# Altium schematic symbol library SCH - POWER - SWITCHMODE - TI TPS51216RUK.SchLib: 1 symbol
Pins are listed as number, name and electrical type; pins without a type are passive.

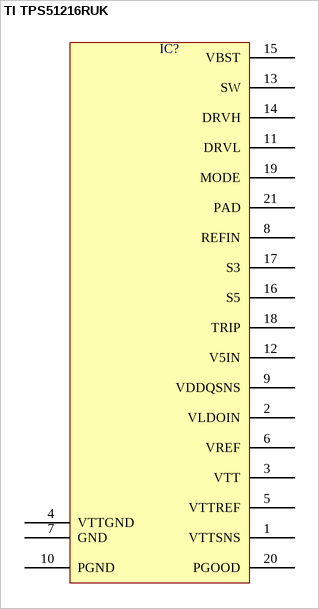
[diagram p0: symbol TI TPS51216RUK]

## TI TPS51216RUK
designator IC?  (value not drawn)
pins: 1 VTTSNS, 2 VLDOIN, 3 VTT, 4 VTTGND, 5 VTTREF, 6 VREF, 7 GND, 8 REFIN, 9 VDDQSNS, 10 PGND, 11 DRVL, 12 V5IN, 13 SW, 14 DRVH, 15 VBST, 16 S5, 17 S3, 18 TRIP, 19 MODE, 20 PGOOD, 21 PAD